# Altium schematic symbol library CSD23285F5.Schlib: 1 symbol
Pins are listed as number, name and electrical type; pins without a type are passive.

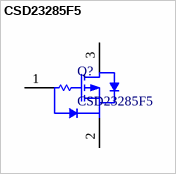
[diagram p0: symbol CSD23285F5]

## CSD23285F5
designator Q?
pins: 1 G, 2 S, 3 D